# Altium footprint library ebf_f103vet6 motor dev board_PCB封装_AD格式.PcbLib: 46 footprints (part 3 of 3)
Each footprint in its own frame and in the unit in brackets; x right, y up, seen from the top. Pads: shape width x height; smd on the part's side, far side on the other; paste and mask are expansions set on the pad; w line width, h text height; cw(c..) or ccw(c..) is an arc to the next point about the centre after c.
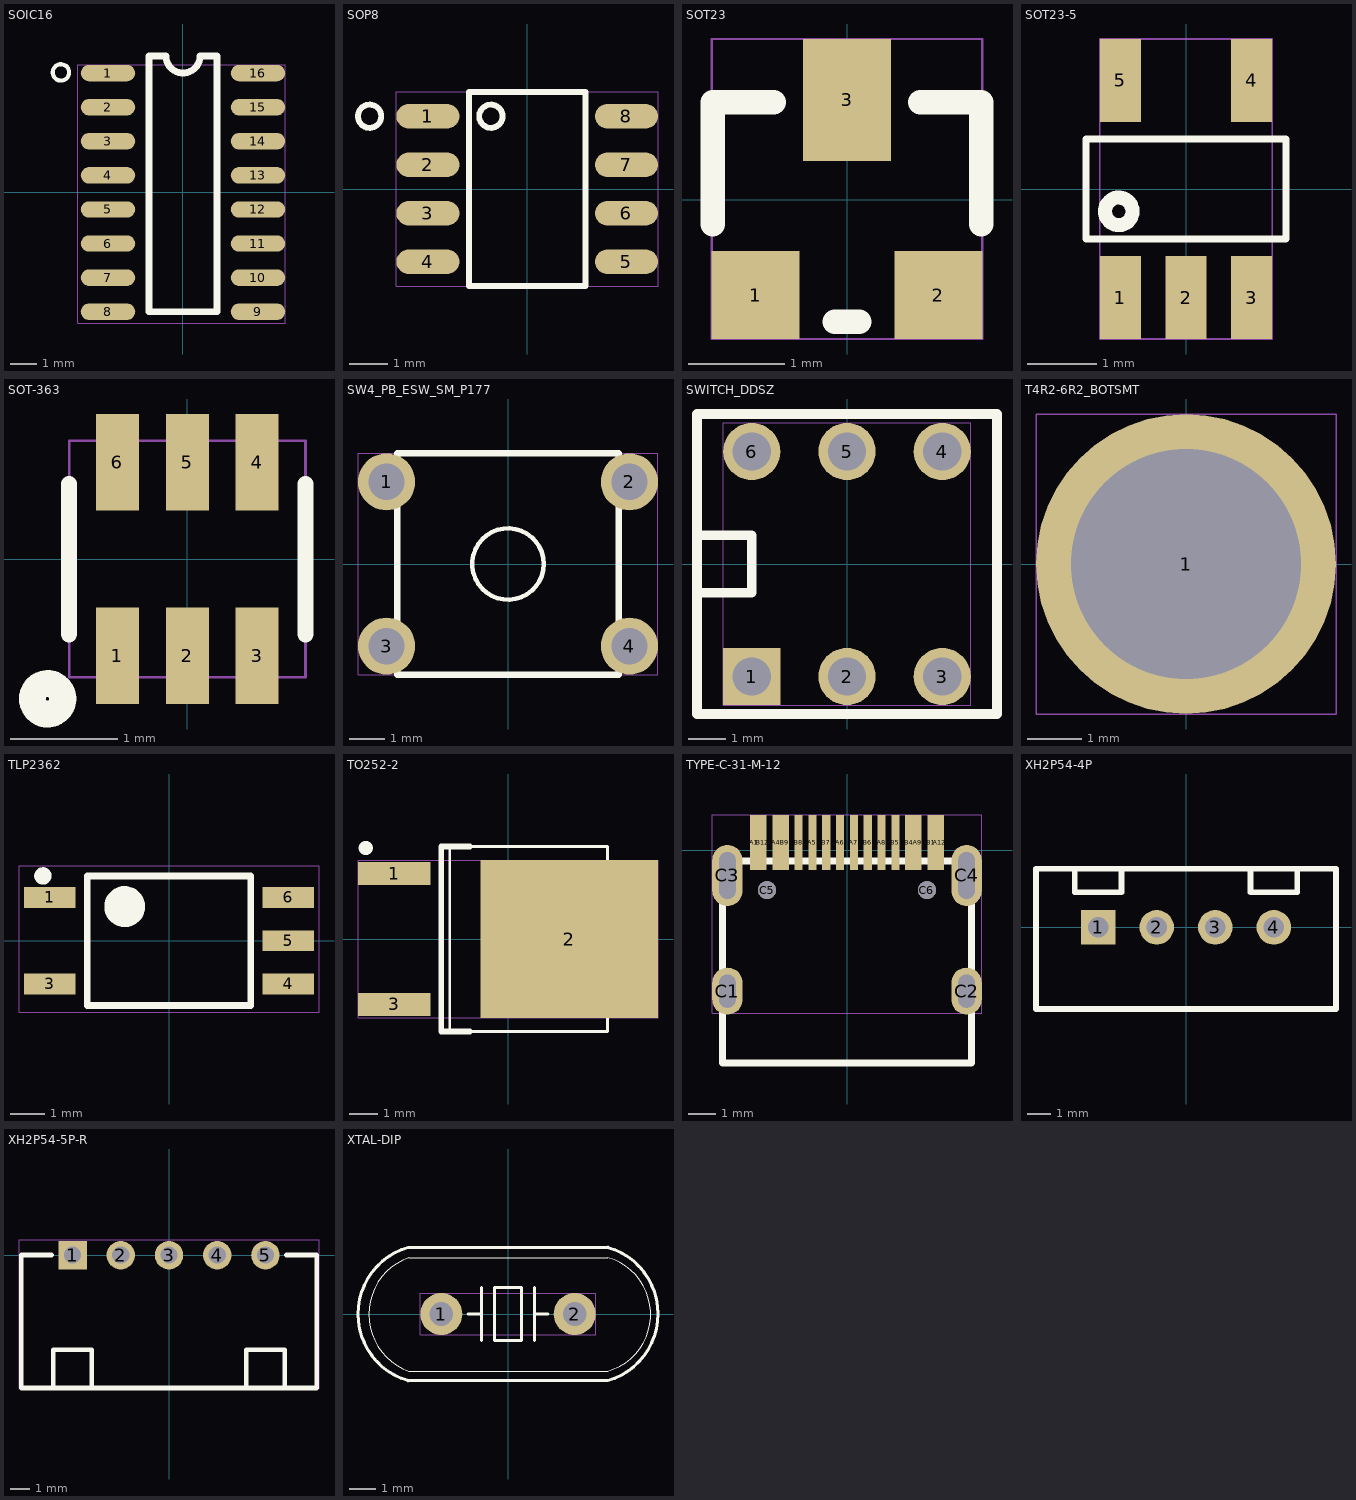
[diagram p2: the footprints below, top view; thin cyan lines are the x and y axes]

## SOIC16 [mil]
pads (16):
  oval 80x24 smd mask+2.5: 1(-110,175) 2(-110,125) 3(-110,75) 4(-110,25) 5(-110,-25) 6(-110,-75) 7(-110,-125) 8(-110,-175) 9(110,-175) 10(110,-125) 11(110,-75) 12(110,-25) 13(110,25) 14(110,75) 15(110,125) 16(110,175)
Top Overlay:
  circle w5.98: c-179.02,175.99 r12.02
  lines w10: -50,-175 -50,200 -25,200 ccw(c0,200) 25,200 50,200 50,-175 -50,-175
Top Assembly:
  text "U9" at 39.04,25 h50
Mechanical 20:
  lines w1: -154,-192 150,-192 150,187 -154,187 -154,-192

## SOP8 [mil]
pads (8):
  oval 65x25 smd mask+1.97: 1(-102.36,75) 2(-102.36,25) 3(-102.36,-25) 4(-102.36,-75) 5(102.36,-75) 6(102.36,-25) 7(102.36,25) 8(102.36,75)
Top Overlay:
  circle w6: c-162.36,75 r12
  circle w6: c-37.36,75 r12
  lines w6: -60,-100 60,-100 60,100 -60,100 -60,-100
Top Assembly:
  text "U8" at -40.23,-25 h50
Mechanical 20:
  lines w1: -134.86,-100 -134.86,100 134.86,100 134.86,-100 -134.86,-100

## SOT23 [mil]
pads (3):
  rect 36x36 smd mask+1.97: 1(-37.5,-39) 2(37.5,-39)
  rect 36x50 smd mask+1.97: 3(0,41)
Top Overlay:
  lines w10: -55,-10 -55,40 -30,40 ; -5,-50 5,-50 ; 30,40 55,40 55,-10
Top Assembly:
  text "Q7" at 41.54,27.38 h50
Mechanical 20:
  lines w1: -55.5,-57 55.5,-57 55.5,66 -55.5,66 -55.5,-57

## SOT23-5 [mil]
pads (5):
  rect 23.62x47.24 smd mask+1.97: 1(-37.4,-62.01) 2(0,-62.01) 3(37.4,-62.01) 4(37.4,62.01) 5(-37.4,62.01)
Top Overlay:
  circle w8: c-38.4,-12.79 r7.87
  lines w4: -57.09,-28.54 -57.09,18.7 -57.09,28.54 57.09,28.54 57.09,18.7 57.09,-28.54 -57.09,-28.54
Top Assembly:
  text "U4" at -41.42,-25 h50
Mechanical 20:
  lines w1: -49.21,-85.63 49.21,-85.63 49.21,85.63 -49.21,85.63 -49.21,-85.63

## SOT-363 [mm]
pads (6):
  rect 0.4x0.9 smd mask+0.05: 1(-0.65,-0.9) 2(0,-0.9) 3(0.65,-0.9) 4(0.65,0.9) 5(0,0.9) 6(-0.65,0.9)
Top Overlay:
  circle w0.25: c-1.3,-1.3 r0.142
  lines w0.15: -1.1,-0.7 -1.1,0.7 ; 1.1,-0.7 1.1,0.7
Top Assembly:
  text "U1" at -0.75,-0.635 h1.27
Mechanical 20:
  lines w0.025: -1.1,-1.1 -1.1,1.1 1.1,1.1 1.1,-1.1 -1.1,-1.1

## SW4_PB_ESW_SM_P177 [mil]
pads (4):
  round 63 hole 40 mask+2.5: 1(-133.86,90.55) 2(133.86,90.55) 3(-133.86,-90.55) 4(133.86,-90.55)
Top Overlay:
  circle w5: c0,0 r39.37
  lines w7: -122.05,-122.05 -122.05,122.05 122.05,122.05 122.05,-122.05 -122.05,-122.05
Top Assembly:
  text "SW6" at -66.54,-25 h50
Mechanical 20:
  lines w1: -165.35,-122.05 -165.35,122.05 165.35,122.05 165.35,-122.05 -165.35,-122.05

## SWITCH_DDSZ [mil]
pads (6):
  rect 60x60 / inner round 60 / far side rect 60x60 hole 40 mask+2.5: 1(-100,-118.11)
  round 60 hole 40 mask+2.5: 2(0,-118.11) 3(100,-118.11) 4(100,118.11) 5(0,118.11) 6(-100,118.11)
Top Overlay:
  lines w10: -157.48,-30 -100,-30 -100,30 -157.48,30 ; -157.48,-157.48 157.48,-157.48 157.48,157.48 -157.48,157.48 -157.48,-157.48
Top Assembly:
  text "SW1" at -57.02,-25 h50
Mechanical 20:
  lines w1: -130,-148.11 -130,148.11 130,148.11 130,-148.11 -130,-148.11

## T4R2-6R2_BOTSMT [mil]
pads (1):
  round 216.54 / inner round 216.54 / far side round 244.09 hole 166.14 mask+1.97: 1(0,0)
Top Assembly:
  text "H4" at -41.42,-25 h50
Mechanical 20:
  lines w1: -108.27,-108.27 108.27,-108.27 108.27,108.27 -108.27,108.27 -108.27,-108.27

## TLP2362 [mil]
pads (5):
  rect 59.84x24.02 smd: 1(-137.8,50) 3(-137.8,-50) 4(137.8,-50) 5(137.8,0) 6(137.8,50)
Top Overlay:
  circle w9.84: c-145.67,74.8 r5.12
  circle w23.62: c-51.18,39.37 r11.81
  lines w7.87: -94.49,-74.8 -94.49,74.8 94.49,74.8 94.49,-74.8 -94.49,-74.8
Top Assembly:
  text "OP7" at 63.8,25 h50
Mechanical 20:
  lines w1: -173.23,-82.68 173.23,-82.68 173.23,86.61 -173.23,86.61 -173.23,-82.68

## TO252-2 [mil]
pads (3):
  rect 100.39x31.5 smd mask+1.97: 1(-157.48,90.55) 3(-157.48,-90.55)
  rect 246.06x218.5 smd mask+1.97: 2(84.65,0)
Top Overlay:
  circle w9.84: c-196.85,125.98 r4.92
  lines w3.94: 137.8,-105.04 155.35,-105.04 190.94,-65.59 190.94,65.59 155.35,105.04 137.8,105.04 ; -80.71,-127.95 -80.71,127.95 137.8,127.95 137.8,-127.95 -80.71,-127.95
  lines w7.87: -53.15,-127.95 -92.52,-127.95 -92.52,127.95 -53.15,127.95
Top Assembly:
  text "U5" at -40.23,-25 h50
Mechanical 20:
  lines w1: -207.68,-109.25 207.68,-109.25 207.68,109.25 -207.68,109.25 -207.68,-109.25

## TYPE-C-31-M-12 [mm]
pads (22):
  rect 0.3x2 smd mask+0.05: A1(-3.35,0.275) A4(-2.55,0.275) A5(-1.25,0.275) A6(-0.25,0.275) A7(0.25,0.275) A8(1.25,0.275) A9(2.55,0.275) A12(3.35,0.275) B1(3.05,0.275) B4(2.25,0.275) B5(1.75,0.275) B6(0.75,0.275) B7(-0.75,0.275) B8(-1.75,0.275) B9(-2.25,0.275) B12(-3.05,0.275)
  oval 1.1x1.7 hole 0.6 slot 1.2 at 90 deg mask+0.05: C1(-4.32,-5.095) C2(4.32,-5.095)
  oval 1.1x2.2 hole 0.6 slot 1.7 at 90 deg mask+0.05: C3(-4.32,-0.915) C4(4.32,-0.915)
  round 0.65 hole 0.65 unplated mask+0.05: C5(-2.89,-1.445) C6(2.89,-1.445)
Top Overlay:
  lines w0.254: -4.5,-7.695 4.5,-7.695 4.5,-0.395 -4.5,-0.395 -4.5,-7.695
Top Assembly:
  text "J7" at 0.889,0.635 h1.27
Mechanical 20:
  lines w0.025: -4.87,-5.895 -4.87,1.275 4.87,1.275 4.87,-5.895 -4.87,-5.895

## XH2P54-4P [mil]
pads (4):
  rect 59.06x59.06 / inner round 59.06 / far side rect 59.06x59.06 hole 35.43 mask+1.97: 1(-150,0)
  round 59.06 hole 35.43 mask+1.97: 2(-50,0) 3(50,0) 4(150,0)
Top Overlay:
  lines w10: -256.3,-139.37 -256.3,100 256.3,100 256.3,-139.37 -256.3,-139.37 ; -190,60 -190,100 -110,100 -110,60 -190,60 ; 110,60 110,100 190,100 190,60 110,60
Top Assembly:
  text "J11" at 42.61,25 h50
Mechanical 20:
  lines w1: -255,-140 -255,100 255,100 255,-140 -255,-140

## XH2P54-5P-R [mil]
pads (5):
  rect 59.06x59.06 / inner round 59.06 / far side rect 59.06x59.06 hole 35.43 mask+1.97: 1(-200,0)
  round 59.06 hole 35.43 mask+1.97: 2(-100,0) 3(0,0) 4(100,0) 5(200,0)
Top Overlay:
  lines w10: -243.31,0 -306.3,0 -306.3,-275.59 306.3,-275.59 306.3,0 243.31,0 ; -240,-275.59 -240,-196.22 -160,-196.22 -160,-275.59 -240,-275.59 ; 160,-275.59 160,-196.22 240,-196.22 240,-275.59 160,-275.59
Top Assembly:
  text "J20" at 57.25,25 h50
Mechanical 20:
  lines w1: -311.02,-275.59 311.02,-275.59 311.02,31.5 -311.02,31.5 -311.02,-275.59

## XTAL-DIP [mil]
pads (2):
  round 62.99 hole 35.43 mask+2: 1(-100,0) 2(100,0)
Top Overlay:
  lines w1: 149.45,-85.69 ccw(c125.85,-0.59) 149.6,84.47 ; 149.53,-85.67 -148.7,-85.67 cw(c-118.91,-0.59) -148.7,84.49 149.53,84.49
  lines w4.72: -150.08,99.98 ccw(c-120.85,0) -149.91,-100.03 ; -150,-100 150,-100 ; -150,100 150,100 ; -60,0 -40,0 ; -40,-40 -40,40 ; 40,-40 40,40 ; 40,0 60,0 ; 149.91,100.03 cw(c120.85,0) 150.08,-99.98 ; -20,-40 -20,40 20,40 20,-40 -20,-40
Top Assembly:
  text "Y3" at 38.93,25 h50
Mechanical 20:
  lines w1: -131.5,-31.5 -131.5,31.5 131.5,31.5 131.5,-31.5 -131.5,-31.5